# Altium integrated library USB3160-30-XXXX-X-X_revA.IntLib: 1 symbol
Pins are listed as number, name and electrical type; pins without a type are passive.

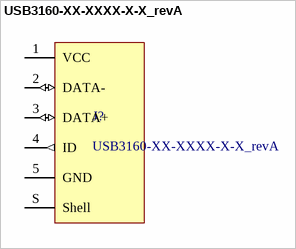
[diagram p0: symbol USB3160-XX-XXXX-X-X_revA]

## USB3160-XX-XXXX-X-X_revA
designator J?
Micro USB Receptacle, Type B, SMT, Vertical, with Locating Peg, with Through-Hole Shell Stakes
footprint USB3160-XX-XXXX-X-X_revA (Micro USB Receptacle, Type B, SMT, Vertical, with Locating Peg, with Through-Hole Shell Stakes)
pins: 1 VCC (power), 2 DATA- (io), 3 DATA+ (io), 4 ID (out), 5 GND (power), S Shell (power)